# EAGLE library part 623X2021021 (library Eagle_BOARD-TO-BOARD_CONNECTORS (rev18b))
WR-PHD 1.27mm Dual SMT Socket Header H=4.50mm, 20 Pins=>Code : Con_BTB_SHD_1.27_2_623x2021021(Packaging:x = 0: Tube x = 3: Tape & Reel with Cap) <http://katalog.we-online.de/media/thumbs2/eican/thb_Con_BTB_SHD_1.27_2_6230xx21021_pf2.jpg> 6230xx21021 Details see: http://katalog.we-online.de/en/em/PHD_1_27_SMT_DUAL_SOCKET_HEADER_6230XX21021 6233xx21021 Details see: http://katalog.we-online.de/en/em/PHD_1_27_SMT_DUAL_SOCKET_HEADER_REEL_6233XX21021 2014 (C) Würth Elektronik
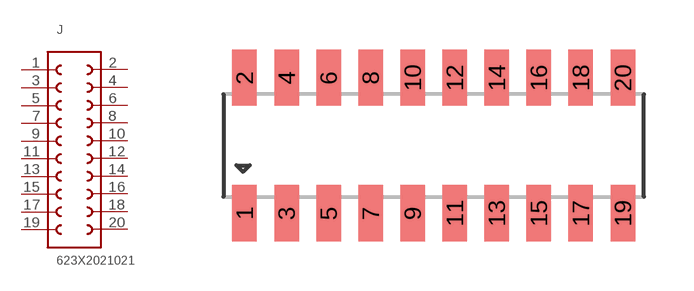
[diagram p298: symbol with the pads of 623X2021021; footprint 623X2021021]

Designator prefix J

## 623X2021021  [623X2021021]
1  1  pas
2  20  pas
3  2  pas
4  19  pas
5  3  pas
6  18  pas
7  4  pas
8  17  pas
9  5  pas
10  16  pas
11  6  pas
12  15  pas
13  7  pas
14  14  pas
15  8  pas
16  13  pas
17  9  pas
18  12  pas
19  10  pas
20  11  pas

## Footprint 623X2021021 (pad centres in mm)
WR-PHD 1.27mm Dual SMT Socket Header H=4.50mm, 20 Pins
smd 0.74 x 1.7: 1 -5.715,-2.05; 2 -5.715,2.05; 3 -4.445,-2.05; 4 -4.445,2.05; 5 -3.175,-2.05; 6 -3.175,2.05; 7 -1.905,-2.05; 8 -1.905,2.05; 9 -0.635,-2.05; 10 -0.635,2.05; 11 0.635,-2.05; 12 0.635,2.05; 13 1.905,-2.05; 14 1.905,2.05; 15 3.175,-2.05; 16 3.175,2.05; 17 4.445,-2.05; 18 4.445,2.05; 19 5.715,-2.05; 20 5.715,2.05